# Altium footprint library CAP_0805.PcbLib: 1 footprints
Each footprint in its own frame and in the unit in brackets; x right, y up, seen from the top. Pads: shape width x height; smd on the part's side, far side on the other; paste and mask are expansions set on the pad; w line width, h text height; cw(c..) or ccw(c..) is an arc to the next point about the centre after c.
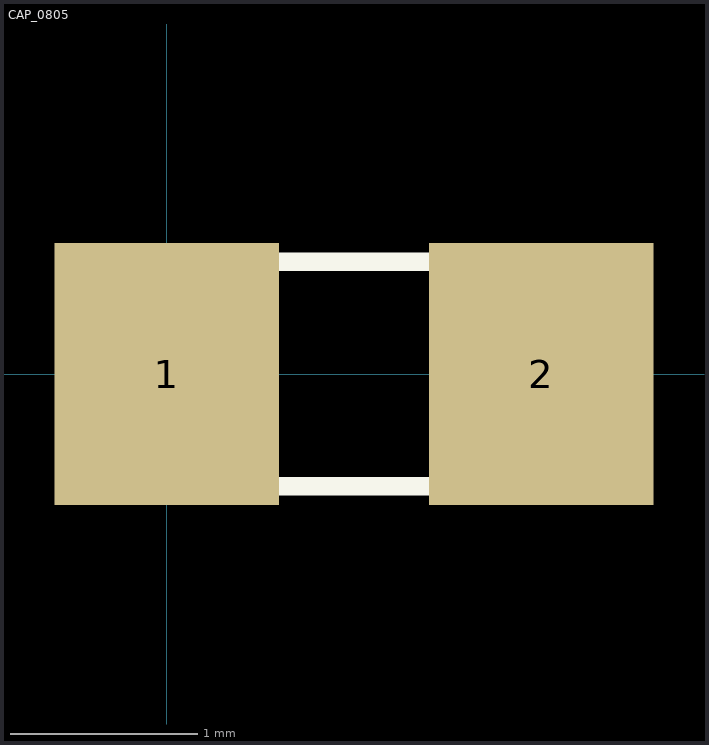
[diagram p0: the footprint, top view; thin cyan lines are the x and y axes]

## CAP_0805 [mm]
pads (2):
  rect 1.2x1.4 smd: 1(0,0) 2(2,0)
Top Overlay:
  lines w0.1: -0.5,-0.6 -0.5,0.6 2.5,0.6 2.5,-0.6 -0.5,-0.6